# Altium schematic symbol library connectors.SchLib: 1 symbol
Pins are listed as number, name and electrical type; pins without a type are passive.

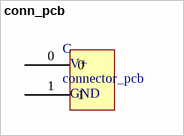
[diagram p0: symbol conn_pcb]

## conn_pcb
designator C, comment connector_pcb
footprint conn_pcb (Footprint not found)
pins: 0, 1
text: V+; GND